# Altium footprint library micro-cyrod.PCBLIB: 4 footprints
Each footprint in its own frame and in the unit in brackets; x right, y up, seen from the top. Pads: shape width x height; smd on the part's side, far side on the other; paste and mask are expansions set on the pad; w line width, h text height; cw(c..) or ccw(c..) is an arc to the next point about the centre after c.
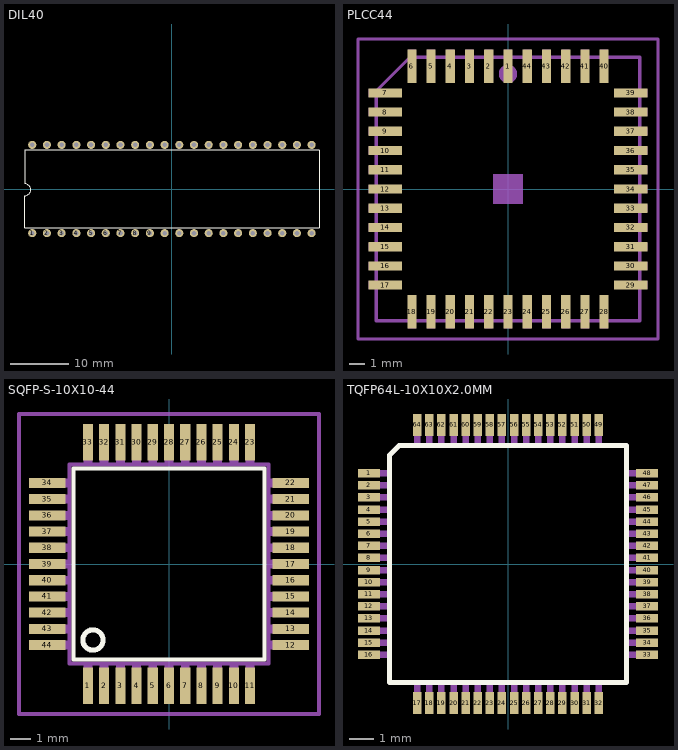
[diagram p0: the footprints below, top view; thin cyan lines are the x and y axes]

## DIL40 [mil]
pads (40):
  round 55.12 hole 31.5: 1(-950,-300) 2(-850,-300) 3(-750,-300) 4(-650,-300) 5(-550,-300) 6(-450,-300) 7(-350,-300) 8(-250,-300) 9(-150,-300) 10(-50,-300) 11(50,-300) 12(150,-300) 13(250,-300) 14(350,-300) 15(450,-300) 16(550,-300) 17(650,-300) 18(750,-300) 19(850,-300) 20(950,-300) 21(950,300) 22(850,300) 23(750,300) 24(650,300) 25(550,300) 26(450,300) 27(350,300) 28(250,300) 29(150,300) 30(50,300) 31(-50,300) 32(-150,300) 33(-250,300) 34(-350,300) 35(-450,300) 36(-550,300) 37(-650,300) 38(-750,300) 39(-850,300) 40(-950,300)
Top Overlay:
  lines w6: -1000,-265 1000,-265 1000,265 -1000,265 -1000,35 cw(c-1000,-5) -1000,-45 -1000,-265

## PLCC44 [mm]
pads (44):
  rect 0.6x2.2 smd: 1(0,8.1) 2(-1.27,8.1) 3(-2.54,8.1) 4(-3.81,8.1) 5(-5.08,8.1) 6(-6.35,8.1) 18(-6.35,-8.1) 19(-5.08,-8.1) 20(-3.81,-8.1) 21(-2.54,-8.1) 22(-1.27,-8.1) 23(0,-8.1) 24(1.27,-8.1) 25(2.54,-8.1) 26(3.81,-8.1) 27(5.08,-8.1) 28(6.35,-8.1) 40(6.35,8.1) 41(5.08,8.1) 42(3.81,8.1) 43(2.54,8.1) 44(1.27,8.1)
  rect 2.2x0.6 smd: 7(-8.1,6.35) 8(-8.1,5.08) 9(-8.1,3.81) 10(-8.1,2.54) 11(-8.1,1.27) 12(-8.1,0) 13(-8.1,-1.27) 14(-8.1,-2.54) 15(-8.1,-3.81) 16(-8.1,-5.08) 17(-8.1,-6.35) 29(8.1,-6.35) 30(8.1,-5.08) 31(8.1,-3.81) 32(8.1,-2.54) 33(8.1,-1.27) 34(8.1,0) 35(8.1,1.27) 36(8.1,2.54) 37(8.1,3.81) 38(8.1,5.08) 39(8.1,6.35)
Mechanical 6:
  rectangle: -1,-1 1,1
Mechanical 16:
  circle w0.61: c0,7.6 r0.3
  rectangle: -0.26,8.75 0.26,9.2
  rectangle: -1.53,8.75 -1.01,9.2
  rectangle: -2.8,8.75 -2.28,9.2
  rectangle: -4.07,8.75 -3.55,9.2
  rectangle: -5.34,8.75 -4.82,9.2
  rectangle: -6.61,8.75 -6.09,9.2
  rectangle: -9.2,6.09 -8.75,6.61
  rectangle: -9.2,4.82 -8.75,5.34
  rectangle: -9.2,3.55 -8.75,4.07
  rectangle: -9.2,2.28 -8.75,2.8
  rectangle: -9.2,1.01 -8.75,1.53
  rectangle: -9.2,-0.26 -8.75,0.26
  rectangle: -9.2,-1.53 -8.75,-1.01
  rectangle: -9.2,-2.8 -8.75,-2.28
  rectangle: -9.2,-4.07 -8.75,-3.55
  rectangle: -9.2,-5.34 -8.75,-4.82
  rectangle: -9.2,-6.61 -8.75,-6.09
  rectangle: -6.61,-9.2 -6.09,-8.75
  rectangle: -5.34,-9.2 -4.82,-8.75
  rectangle: -4.07,-9.2 -3.55,-8.75
  rectangle: -2.8,-9.2 -2.28,-8.75
  rectangle: -1.53,-9.2 -1.01,-8.75
  rectangle: -0.26,-9.2 0.26,-8.75
  rectangle: 1.01,-9.2 1.53,-8.75
  rectangle: 2.28,-9.2 2.8,-8.75
  rectangle: 3.55,-9.2 4.07,-8.75
  rectangle: 4.82,-9.2 5.34,-8.75
  rectangle: 6.09,-9.2 6.61,-8.75
  rectangle: 8.75,-6.61 9.2,-6.09
  rectangle: 8.75,-5.34 9.2,-4.82
  rectangle: 8.75,-4.07 9.2,-3.55
  rectangle: 8.75,-2.8 9.2,-2.28
  rectangle: 8.75,-1.53 9.2,-1.01
  rectangle: 8.75,-0.26 9.2,0.26
  rectangle: 8.75,1.01 9.2,1.53
  rectangle: 8.75,2.28 9.2,2.8
  rectangle: 8.75,3.55 9.2,4.07
  rectangle: 8.75,4.82 9.2,5.34
  rectangle: 8.75,6.09 9.2,6.61
  rectangle: 6.09,8.75 6.61,9.2
  rectangle: 4.82,8.75 5.34,9.2
  rectangle: 3.55,8.75 4.07,9.2
  rectangle: 2.28,8.75 2.8,9.2
  rectangle: 1.01,8.75 1.53,9.2
  lines w0.203: -8.7,-8.7 -8.7,6.465 -6.465,8.7 8.7,8.7 8.7,-8.7 -8.7,-8.7
  text "IPC PLCC-44 Suare" at -5.96,4.27 h0.94
Mechanical 27:
  lines w0.2: -9.903,-9.903 9.903,-9.903 9.903,9.903 -9.903,9.903 -9.903,-9.903

## SQFP-S-10X10-44 [mm]
pads (44):
  rect 0.5x1.8 smd: 1(-4,-6) 2(-3.2,-6) 3(-2.4,-6) 4(-1.6,-6) 5(-0.8,-6) 6(0,-6) 7(0.8,-6) 8(1.6,-6) 9(2.4,-6) 10(3.2,-6) 11(4,-6) 23(4,6) 24(3.2,6) 25(2.4,6) 26(1.6,6) 27(0.8,6) 28(0,6) 29(-0.8,6) 30(-1.6,6) 31(-2.4,6) 32(-3.2,6) 33(-4,6)
  rect 1.8x0.5 smd: 12(6,-4) 13(6,-3.2) 14(6,-2.4) 15(6,-1.6) 16(6,-0.8) 17(6,0) 18(6,0.8) 19(6,1.6) 20(6,2.4) 21(6,3.2) 22(6,4) 34(-6,4) 35(-6,3.2) 36(-6,2.4) 37(-6,1.6) 38(-6,0.8) 39(-6,0) 40(-6,-0.8) 41(-6,-1.6) 42(-6,-2.4) 43(-6,-3.2) 44(-6,-4)
Top Overlay:
  circle w0.254: c-3.75,-3.75 r0.5
  lines w0.203: -4.72,-4.71 4.71,-4.71 4.71,4.71 -4.72,4.71 -4.72,-4.71
Mechanical 16:
  rectangle: -4.22,-6.72 -3.78,-4.95
  rectangle: -3.42,-6.72 -2.98,-4.95
  rectangle: -2.62,-6.72 -2.18,-4.95
  rectangle: -1.82,-6.72 -1.38,-4.95
  rectangle: -1.02,-6.72 -0.58,-4.95
  rectangle: -0.22,-6.72 0.22,-4.95
  rectangle: 0.58,-6.72 1.02,-4.95
  rectangle: 1.38,-6.72 1.82,-4.95
  rectangle: 2.18,-6.72 2.62,-4.95
  rectangle: 2.98,-6.72 3.42,-4.95
  rectangle: 3.78,-6.72 4.22,-4.95
  rectangle: 4.95,-4.22 6.72,-3.78
  rectangle: 4.95,-3.42 6.72,-2.98
  rectangle: 4.95,-2.62 6.72,-2.18
  rectangle: 4.95,-1.82 6.72,-1.38
  rectangle: 4.95,-1.02 6.72,-0.58
  rectangle: 4.95,-0.22 6.72,0.22
  rectangle: 4.95,0.58 6.72,1.02
  rectangle: 4.95,1.38 6.72,1.82
  rectangle: 4.95,2.18 6.72,2.62
  rectangle: 4.95,2.98 6.72,3.42
  rectangle: 4.95,3.78 6.72,4.22
  rectangle: 3.78,4.95 4.22,6.72
  rectangle: 2.98,4.95 3.42,6.72
  rectangle: 2.18,4.95 2.62,6.72
  rectangle: 1.38,4.95 1.82,6.72
  rectangle: 0.58,4.95 1.02,6.72
  rectangle: -0.22,4.95 0.22,6.72
  rectangle: -1.02,4.95 -0.58,6.72
  rectangle: -1.82,4.95 -1.38,6.72
  rectangle: -2.62,4.95 -2.18,6.72
  rectangle: -3.42,4.95 -2.98,6.72
  rectangle: -4.22,4.95 -3.78,6.72
  rectangle: -6.72,3.78 -4.95,4.22
  rectangle: -6.72,2.98 -4.95,3.42
  rectangle: -6.72,2.18 -4.95,2.62
  rectangle: -6.72,1.38 -4.95,1.82
  rectangle: -6.72,0.58 -4.95,1.02
  rectangle: -6.72,-0.22 -4.95,0.22
  rectangle: -6.72,-1.02 -4.95,-0.58
  rectangle: -6.72,-1.82 -4.95,-1.38
  rectangle: -6.72,-2.62 -4.95,-2.18
  rectangle: -6.72,-3.42 -4.95,-2.98
  rectangle: -6.72,-4.22 -4.95,-3.78
  lines w0.203: -4.91,-4.91 4.91,-4.91 4.91,4.91 -4.91,4.91 -4.91,-4.91
Mechanical 27:
  lines w0.2: -7.4,-7.4 -7.4,7.4 7.4,7.4 7.4,-7.4 -7.4,-7.4

## TQFP64L-10X10X2.0MM [mm]
pads (64):
  rect 0.9x0.35 smd: 1(-5.75,3.75) 2(-5.75,3.25) 3(-5.75,2.75) 4(-5.75,2.25) 5(-5.75,1.75) 6(-5.75,1.25) 7(-5.75,0.75) 8(-5.75,0.25) 9(-5.75,-0.25) 10(-5.75,-0.75) 11(-5.75,-1.25) 12(-5.75,-1.75) 13(-5.75,-2.25) 14(-5.75,-2.75) 15(-5.75,-3.25) 16(-5.75,-3.75) 33(5.75,-3.75) 34(5.75,-3.25) 35(5.75,-2.75) 36(5.75,-2.25) 37(5.75,-1.75) 38(5.75,-1.25) 39(5.75,-0.75) 40(5.75,-0.25) 41(5.75,0.25) 42(5.75,0.75) 43(5.75,1.25) 44(5.75,1.75) 45(5.75,2.25) 46(5.75,2.75) 47(5.75,3.25) 48(5.75,3.75)
  rect 0.35x0.9 smd: 17(-3.75,-5.75) 18(-3.25,-5.75) 19(-2.75,-5.75) 20(-2.25,-5.75) 21(-1.75,-5.75) 22(-1.25,-5.75) 23(-0.75,-5.75) 24(-0.25,-5.75) 25(0.25,-5.75) 26(0.75,-5.75) 27(1.25,-5.75) 28(1.75,-5.75) 29(2.25,-5.75) 30(2.75,-5.75) 31(3.25,-5.75) 32(3.75,-5.75) 49(3.75,5.75) 50(3.25,5.75) 51(2.75,5.75) 52(2.25,5.75) 53(1.75,5.75) 54(1.25,5.75) 55(0.75,5.75) 56(0.25,5.75) 57(-0.25,5.75) 58(-0.75,5.75) 59(-1.25,5.75) 60(-1.75,5.75) 61(-2.25,5.75) 62(-2.75,5.75) 63(-3.25,5.75) 64(-3.75,5.75)
Top Overlay:
  lines w0.203: -4.898,-4.898 4.898,-4.898 4.898,4.898 -4.5,4.898 -4.898,4.5 -4.898,-4.898
Mechanical 16:
  rectangle: -6,3.615 -5,3.885
  rectangle: -6,3.115 -5,3.385
  rectangle: -6,2.615 -5,2.885
  rectangle: -6,2.115 -5,2.385
  rectangle: -6,1.615 -5,1.885
  rectangle: -6,1.115 -5,1.385
  rectangle: -6,0.615 -5,0.885
  rectangle: -6,0.115 -5,0.385
  rectangle: -6,-0.385 -5,-0.115
  rectangle: -6,-0.885 -5,-0.615
  rectangle: -6,-1.385 -5,-1.115
  rectangle: -6,-1.885 -5,-1.615
  rectangle: -6,-2.385 -5,-2.115
  rectangle: -6,-2.885 -5,-2.615
  rectangle: -6,-3.385 -5,-3.115
  rectangle: -6,-3.885 -5,-3.615
  rectangle: -3.885,-6 -3.615,-5
  rectangle: -3.385,-6 -3.115,-5
  rectangle: -2.885,-6 -2.615,-5
  rectangle: -2.385,-6 -2.115,-5
  rectangle: -1.885,-6 -1.615,-5
  rectangle: -1.385,-6 -1.115,-5
  rectangle: -0.885,-6 -0.615,-5
  rectangle: -0.385,-6 -0.115,-5
  rectangle: 0.115,-6 0.385,-5
  rectangle: 0.615,-6 0.885,-5
  rectangle: 1.115,-6 1.385,-5
  rectangle: 1.615,-6 1.885,-5
  rectangle: 2.115,-6 2.385,-5
  rectangle: 2.615,-6 2.885,-5
  rectangle: 3.115,-6 3.385,-5
  rectangle: 3.615,-6 3.885,-5
  rectangle: 5,-3.885 6,-3.615
  rectangle: 5,-3.385 6,-3.115
  rectangle: 5,-2.885 6,-2.615
  rectangle: 5,-2.385 6,-2.115
  rectangle: 5,-1.885 6,-1.615
  rectangle: 5,-1.385 6,-1.115
  rectangle: 5,-0.885 6,-0.615
  rectangle: 5,-0.385 6,-0.115
  rectangle: 5,0.115 6,0.385
  rectangle: 5,0.615 6,0.885
  rectangle: 5,1.115 6,1.385
  rectangle: 5,1.615 6,1.885
  rectangle: 5,2.115 6,2.385
  rectangle: 5,2.615 6,2.885
  rectangle: 5,3.115 6,3.385
  rectangle: 5,3.615 6,3.885
  rectangle: 3.615,5 3.885,6
  rectangle: 3.115,5 3.385,6
  rectangle: 2.615,5 2.885,6
  rectangle: 2.115,5 2.385,6
  rectangle: 1.615,5 1.885,6
  rectangle: 1.115,5 1.385,6
  rectangle: 0.615,5 0.885,6
  rectangle: 0.115,5 0.385,6
  rectangle: -0.385,5 -0.115,6
  rectangle: -0.885,5 -0.615,6
  rectangle: -1.385,5 -1.115,6
  rectangle: -1.885,5 -1.615,6
  rectangle: -2.385,5 -2.115,6
  rectangle: -2.885,5 -2.615,6
  rectangle: -3.385,5 -3.115,6
  rectangle: -3.885,5 -3.615,6